# Altium schematic symbol library STM LSM303AGR.SchLib: 1 symbol
Pins are listed as number, name and electrical type; pins without a type are passive.

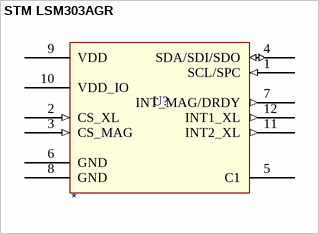
[diagram p0: symbol STM LSM303AGR]

## STM LSM303AGR
designator U?
Part Number: *
pins: 1 SCL/SPC (in), 2 CS_XL (in), 3 CS_MAG (in), 4 SDA/SDI/SDO (io), 5 C1 (power), 6 GND (power), 7 INT_MAG/DRDY (out), 8 GND (power), 9 VDD (power), 10 VDD_IO (power), 11 INT2_XL (out), 12 INT1_XL (out)